# EAGLE library part 62000621821 (library Board-to-Board (rev18a))
WR-PHD 2.00mm Dual Socket Header, 6 Pins=>Code : Con_BTB_SHD_2.00_2_62000621821 <http://katalog.we-online.de/media/thumbs2/eican/thb_Con_BTB_SHD_2.00_2_6200xx21821_pf2.jpg> Details see: http://katalog.we-online.de/en/em/PHD_2_00_DUAL_SOCKET_HEADER_6200XX21821 Created 2014-06-03, Karrer Zheng 2014 (C) Würth Elektronik
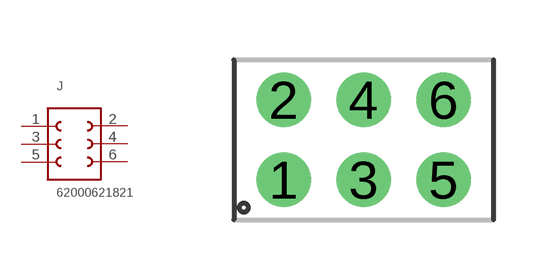
[diagram p244: symbol with the pads of 62000621821; footprint 62000621821]

Designator prefix J

## 62000621821  [62000621821]
1  1  pas
2  6  pas
3  2  pas
4  5  pas
5  3  pas
6  4  pas

## Footprint 62000621821 (pad centres in mm)
WR-PHD 2.00mm Dual Socket Header, 6 Pins
drill 0.85: 1 -2,-1; 2 -2,1; 3 0,-1; 4 0,1; 5 2,-1; 6 2,1